# Altium schematic symbol library Quadcopter_Library.SchLib: 118 symbols (part 2 of 4)
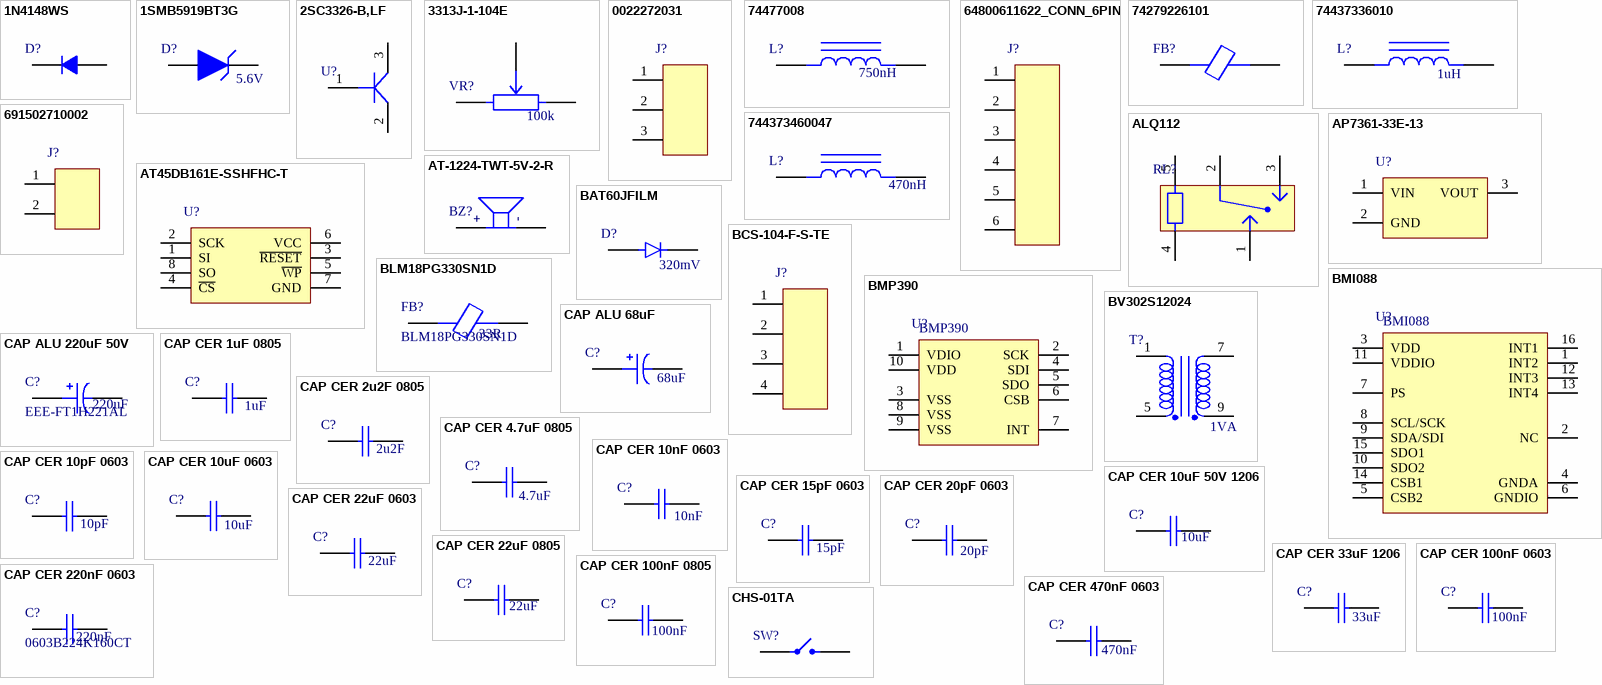
[diagram p3: symbols 1N4148WS to CHS-01TA]

## CAP CER 22uF 0603
designator C?, comment Capacitance: 22uF  (hidden comment: 1276-1274-1-ND)
Ceramic Capacitor, Multilayer, Ceramic, 10V, 20% +Tol, 20% -Tol, X5R, 15% TC, 22uF, Surface Mount, 0603; Manufacturer: Samsung; Manufacturer Part Number: CL10A226MP8NUNE; Multilayer: Yes; Designed By: Kubilay Közleme; Supplier 1: Digikey; RoHS: Yes; Category: Ceramic Capacitors; Stock 1: 977664; Pricing 1: 1=0.18, 10=0.121, 50=0.0726, 100=0.0571, 500=0.04214, 1000=0.03489 (USD); Mount: Surface Mount; Number of Pins: 2; Dielectric Material: Ceramic; Package Shape: Rectangular; Size Code: 0603; Terminal Finish: Nickel; Min Operating Temperature: -55°C; Max Operating Temperature: 85°C; JESD-609 Code: e3; Capacitor Type: Ceramic; Negative Tolerance: 20%; Package Style: SMTMeter; Packaging: Tape and Reel; Positive Tolerance: 20%; Rated DC Voltage (URdc): 10V; Temperature Characteristics Code: X5R; Termination: Wraparound; Length: 1.6mm; Width: 0.8mm; Height: 1.05mm; Reach SVHC Compliant: Yes; RoHS Compliant: Yes; ComponentLink1URL: https://datasheet.ciiva.com:443/pdfs/VipMasterIC/IC/SEMS/SEMS-S-A0008525088/SEMS-S-A0008525102-1.pdf?src-supplier=IHS+Markit; ComponentLink1Description: https://datasheet.ciiva.com:443/pdfs/VipMasterIC/IC/SEMS/SEMS-S-A0008525088/SEMS-S-A0008525102-1.pdf?src-supplier=IHS+Markit; ComponentLink2URL: https://datasheet.ciiva.com/26838/getdatasheetpartid-746477-26838370.pdf?src-supplier=Verical; ComponentLink2Description: https://datasheet.ciiva.com/26838/getdatasheetpartid-746477-26838370.pdf?src-supplier=Verical; ComponentLink3URL: https://datasheet.ciiva.com/25711/cl10a226mp8nune-25711532.pdf?src-supplier=Digikey; ComponentLink3Description: https://datasheet.ciiva.com/25711/cl10a226mp8nune-25711532.pdf?src-supplier=Digikey; Supplier Part Number 1: 1276-1274-1-ND
footprint CAP_0603
pins: 1, 2

## CAP CER 22uF 0805
designator C?, comment Capacitance Value: 22uF  (hidden comment: C2012X5R1V226M125DC)
Commercial Grade, 0805, X5R, 35V, 22; Manufacturer: TDK; Designed By: Kubilay Közleme; Supplier 1: Digikey; Manufacturer Part Number: C2012X5R1V226M125DC; RoHS: No; Category: Ceramic Capacitors; Stock 1: 18749; Pricing 1: 1=0.96, 10=0.592, 50=0.4438, 100=0.3974, 500=0.31846, 1000=0.2938, 2500=0.26759, 5000=0.25169 (USD); Supplier Part Number 1: 445-C2012X5R1V226M125DCCT-ND
footprint CAP_0805
pins: 1, 2

## CAP CER 33uF 1206
designator C?, comment value 33uF  (hidden comment: C3216X5R1E336M160AC)
Multilayer Ceramic Capacitor, 33 uF, 25 V, ± 20%, X5R, 1206 [3216 Metric]; Manufacturer: TDK; Material: 4241ConductorMaterial; Designed By: Kubilay Közleme; Supplier 1: Digikey; Manufacturer Part Number: C3216X5R1E336M160AC; RoHS: Yes; Category: Ceramic Capacitors; Stock 1: 165229; Pricing 1: 2000=0.3605, 4000=0.34763, 10000=0.33475, 14000=0.32831 (USD); ComponentLink1URL: https://datasheet.ciiva.com/24216/c3216x5r1e336m160ac-265051-24216512.pdf?src-supplier=Mouser; ComponentLink1Description: https://datasheet.ciiva.com/24216/c3216x5r1e336m160ac-265051-24216512.pdf?src-supplier=Mouser; ComponentLink2URL: https://datasheet.ciiva.com/6285/tdkmlcccaprange-6285278.pdf?src-supplier=Digikey; ComponentLink2Description: https://datasheet.ciiva.com/6285/tdkmlcccaprange-6285278.pdf?src-supplier=Digikey; Supplier Part Number 1: 445-8046-2-ND
footprint CAP_1206
pins: 1, 2

## CAP CER 100nF 0603
designator C?, comment Capacitance: 100nF  (hidden comment: C0603C104K1RACTU)
Cap Cer 0603 0.1UF 100VDC X7R; Manufacturer: KEMET; Dielectric: 1511DielectricType; Voltage Rating (DC): 100V; Designed By: Kubilay Közleme; Supplier 1: Digikey; Manufacturer Part Number: C0603C104K1RACTU; RoHS: No; Category: Ceramic Capacitors; Stock 1: 10169; Pricing 1: 1=0.28, 10=0.185, 50=0.1296, 100=0.1047, 500=0.07782, 1000=0.06808 (USD); Case/Package: 345Case; Supplier Part Number 1: 399-C0603C104K1RACTUCT-ND
footprint CAP_0603
pins: 1, 2

## CAP CER 100nF 0805
designator C?, comment Capacitance: 100nF  (hidden comment: CL21B104KBCNNNC)
Multilayer Ceramic Capacitor, 0.1 uF, 50 V, ï¿½ 10%, X7R, 0805 [2012 Metric]; Manufacturer: Samsung; Voltage Rating: 50V; Designed By: Kubilay Közleme; Supplier 1: Digikey; Manufacturer Part Number: CL21B104KBCNNNC; RoHS: Yes; Category: Ceramic Capacitors; Stock 1: 1683568; Pricing 1: 1=0.1, 10=0.042, 50=0.024, 100=0.0186, 500=0.01404, 1000=0.01103 (USD); Mount: Surface Mount; Case/Package: 0805; Case Code (Metric): 2012; Case Code (Imperial): 0805; Material: Ceramic; Min Operating Temperature: -55°C; Max Operating Temperature: 125°C; Tolerance: 10%; Dielectric: X7R; Packaging: Tape and Reel; Voltage: 50V; Series: CL; Construction: Flat; Voltage Rating (DC): 50V; Length: 2mm; Width: 0.049inch; Height: 0.85mm; Depth: 1.25mm; Thickness: 0.037inch; Radiation Hardening: No; RoHS Compliant: Yes; Lead Free: 5697LeadFree; ComponentLink1URL: https://datasheet.ciiva.com/25710/cl21b104kbcnnnc-25710182.pdf?src-supplier=Digikey; ComponentLink1Description: https://datasheet.ciiva.com/25710/cl21b104kbcnnnc-25710182.pdf?src-supplier=Digikey; ComponentLink2URL: https://datasheet.ciiva.com/29199/454152-da-01-en-vs-kondensator-0805-29199814.pdf?src-supplier=Conrad; ComponentLink2Description: https://datasheet.ciiva.com/29199/454152-da-01-en-vs-kondensator-0805-29199814.pdf?src-supplier=Conrad; Supplier Part Number 1: 1276-1003-6-ND
footprint CAP_0805
pins: 1, 2

## CAP CER 220nF 0603
designator C?, comment 0603B224K160CT  Capacitance: 220nF
Ceramic Capacitor, Multilayer, Ceramic, 16V, 10% +Tol, 10% -Tol, X7R, 15% TC, 0.22uF, Surface Mount, 0603; Manufacturer: Walsin Technologies; Multilayer: Yes; Designed By: Kubilay Közleme; Supplier 1: Digikey; Manufacturer Part Number: 0603B224K160CT; RoHS: Yes; Category: Ceramic Capacitors; Stock 1: 99293; Pricing 1: 1=0.1, 10=0.034, 50=0.0192, 100=0.0149, 500=0.01124, 1000=0.00883 (USD); Mount: Surface Mount; Number of Pins: 2; Dielectric Material: Ceramic; Package Shape: Rectangular; Size Code: 0603; Terminal Finish: Nickel; Min Operating Temperature: -55°C; Max Operating Temperature: 125°C; JESD-609 Code: e3; Capacitor Type: Ceramic; Negative Tolerance: 10%; Package Style: SMTMeter; Packaging: Tape and Reel; Positive Tolerance: 10%; Rated DC Voltage (URdc): 16V; Temperature Characteristics Code: X7R; Termination: Wraparound; Length: 1.6mm; Width: 0.8mm; Height: 0.8mm; Reach SVHC Compliant: Yes; RoHS Compliant: Yes; ComponentLink1URL: https://datasheet.ciiva.com:443/pdfs/VipMasterIC/IC/WATC/WATC-S-A0009550342/WATC-S-A0009550342-1.pdf?src-supplier=IHS+Markit; ComponentLink1Description: https://datasheet.ciiva.com:443/pdfs/VipMasterIC/IC/WATC/WATC-S-A0009550342/WATC-S-A0009550342-1.pdf?src-supplier=IHS+Markit; ComponentLink2URL: http://www.farnell.com/datasheets/2340522.pdf?src-supplier=Farnell; ComponentLink2Description: http://www.farnell.com/datasheets/2340522.pdf?src-supplier=Farnell; ComponentLink3URL: http://www.farnell.com/datasheets/2009679.pdf?src-supplier=Farnell; ComponentLink3Description: http://www.farnell.com/datasheets/2009679.pdf?src-supplier=Farnell; ComponentLink4URL: https://www.verical.com/server-webapp/html/getDatasheet?partID=415742&src-supplier=Verical; ComponentLink4Description: https://www.verical.com/server-webapp/html/getDatasheet?partID=415742&src-supplier=Verical; ComponentLink5URL: http://www.passivecomponent.com/wp-content/uploads/2018/10/MLCC.pdf?src-supplier=Digikey; ComponentLink5Description: http://www.passivecomponent.com/wp-content/uploads/2018/10/MLCC.pdf?src-supplier=Digikey; ComponentLink6URL: https://datasheet.octopart.com/0603B224K160CT-Walsin-Technologies-datasheet-128065749.pdf?src-supplier=Future+Electronics; ComponentLink6Description: https://datasheet.octopart.com/0603B224K160CT-Walsin-Technologies-datasheet-128065749.pdf?src-supplier=Future+Electronics; ComponentLink7URL: https://datasheet.octopart.com/0603B224K160CT-Walsin-Technologies-datasheet-85392065.pdf?src-supplier=Element14; ComponentLink7Description: https://datasheet.octopart.com/0603B224K160CT-Walsin-Technologies-datasheet-85392065.pdf?src-supplier=Element14; ComponentLink8URL: https://datasheet.octopart.com/0603B224K160CT-Walsin-Technologies-datasheet-136037192.pdf?src-supplier=TECHDesign; ComponentLink8Description: https://datasheet.octopart.com/0603B224K160CT-Walsin-Technologies-datasheet-136037192.pdf?src-supplier=TECHDesign; ComponentLink9URL: https://datasheet.octopart.com/0603B224K160CT-Walsin-Technologies-datasheet-62066062.pdf?src-supplier=TME; ComponentLink9Description: https://datasheet.octopart.com/0603B224K160CT-Walsin-Technologies-datasheet-62066062.pdf?src-supplier=TME; Supplier Part Number 1: 1292-1419-1-ND
footprint CAP_0603
pins: 1, 2

## CAP CER 470nF 0603
designator C?, comment Capacitance: 470nF  (hidden comment: CGA3E3X7R1H474K080AB)
Ceramic Capacitor, Multilayer, Ceramic, 50V, 10% +Tol, 10% -Tol, X7R, 15% TC, 0.47uF, Surface Mount, 0603; Manufacturer: TDK; Designed By: Kubilay Közleme; Multilayer: Yes; Reference Standard: AEC-Q200; Supplier 1: Digikey; Manufacturer Part Number: CGA3E3X7R1H474K080AB; RoHS: Yes; Category: Ceramic Capacitors; Stock 1: 1178582; Pricing 1: 1=0.26, 10=0.15, 50=0.1066, 100=0.0932, 500=0.0704, 1000=0.0633 (USD); Mount: Surface Mount; Number of Pins: 2; Dielectric Material: Ceramic; Package Shape: Rectangular; Size Code: 0603; Terminal Finish: Nickel; Min Operating Temperature: -55°C; Max Operating Temperature: 125°C; JESD-609 Code: e3; Capacitor Type: Ceramic; Negative Tolerance: 10%; Package Style: SMTMeter; Packaging: Tape and Reel; Positive Tolerance: 10%; Rated DC Voltage (URdc): 50V; Temperature Characteristics Code: X7R; Termination: Wraparound; Length: 1.6mm; Width: 0.8mm; Height: 0.8mm; Reach SVHC Compliant: Yes; RoHS Compliant: Yes; ComponentLink1URL: https://datasheet.ciiva.com:443/pdfs/VipMasterIC/IC/TDKC/TDKC-S-A0008953915/TDKC-S-A0008953915-1.pdf?src-supplier=IHS+Markit; ComponentLink1Description: https://datasheet.ciiva.com:443/pdfs/VipMasterIC/IC/TDKC/TDKC-S-A0008953915/TDKC-S-A0008953915-1.pdf?src-supplier=IHS+Markit; ComponentLink2URL: http://www.mouser.com/ds/2/400/lcc_automotive_general_en-843974.pdf?src-supplier=Mouser; ComponentLink2Description: http://www.mouser.com/ds/2/400/lcc_automotive_general_en-843974.pdf?src-supplier=Mouser; ComponentLink3URL: https://4donline.ihs.com/images/VipMasterIC/IC/TDKC/TDKC-S-A0003616427/TDKC-S-A0003616427-1.pdf?hkey=52A5661711E402568146F3353EA87419&src-supplier=Farnell; ComponentLink3Description: https://4donline.ihs.com/images/VipMasterIC/IC/TDKC/TDKC-S-A0003616427/TDKC-S-A0003616427-1.pdf?hkey=52A5661711E402568146F3353EA87419&src-supplier=Farnell; ComponentLink4URL: https://product.tdk.com/info/en/documents/chara_sheet/CGA3E3X7R1H474K080AB.pdf?src-supplier=Digikey; ComponentLink4Description: https://product.tdk.com/info/en/documents/chara_sheet/CGA3E3X7R1H474K080AB.pdf?src-supplier=Digikey; ComponentLink5URL: https://datasheet.octopart.com/CGA3E3X7R1H474K080AB-TDK-datasheet-136412745.pdf?src-supplier=Newark; ComponentLink5Description: https://datasheet.octopart.com/CGA3E3X7R1H474K080AB-TDK-datasheet-136412745.pdf?src-supplier=Newark; ComponentLink6URL: https://4donline.ihs.com/images/VipMasterIC/IC/TDKC/TDKC-S-A0003616427/TDKC-S-A0003616427-1.pdf?hkey=52A5661711E402568146F3353EA87419&src-supplier=Newark; ComponentLink6Description: https://4donline.ihs.com/images/VipMasterIC/IC/TDKC/TDKC-S-A0003616427/TDKC-S-A0003616427-1.pdf?hkey=52A5661711E402568146F3353EA87419&src-supplier=Newark; ComponentLink7URL: https://datasheet.octopart.com/CGA3E3X7R1H474K080AB-TDK-datasheet-151546526.pdf?src-supplier=Future+Electronics; ComponentLink7Description: https://datasheet.octopart.com/CGA3E3X7R1H474K080AB-TDK-datasheet-151546526.pdf?src-supplier=Future+Electronics; ComponentLink8URL: https://product.tdk.com/info/en/catalog/datasheets/mlcc_automotive_general_en.pdf?ref_disty=digikey&src-supplier=Digikey; ComponentLink8Description: https://product.tdk.com/info/en/catalog/datasheets/mlcc_automotive_general_en.pdf?ref_disty=digikey&src-supplier=Digikey; ComponentLink9URL: http://product.tdk.com/capacitor/mlcc/class/print_detail_pdf.php?lang=en&part_no=CGA3E3X7R1H474K080AB&src-supplier=Avnet; ComponentLink9Description: http://product.tdk.com/capacitor/mlcc/class/print_detail_pdf.php?lang=en&part_no=CGA3E3X7R1H474K080AB&src-supplier=Avnet; ComponentLink10URL: https://product.tdk.com/info/en/catalog/datasheets/mlcc_automotive_general_en.pdf?src-supplier=Digikey; ComponentLink10Description: https://product.tdk.com/info/en/catalog/datasheets/mlcc_automotive_general_en.pdf?src-supplier=Digikey; ComponentLink11URL: https://datasheet.octopart.com/CGA3E3X7R1H474K080AB-TDK-datasheet-140571036.pdf?src-supplier=Arrow.cn; ComponentLink11Description: https://datasheet.octopart.com/CGA3E3X7R1H474K080AB-TDK-datasheet-140571036.pdf?src-supplier=Arrow.cn; ComponentLink12URL: https://datasheet.octopart.com/CGA3E3X7R1H474K080AB-TDK-datasheet-165583812.pdf?src-supplier=TME; ComponentLink12Description: https://datasheet.octopart.com/CGA3E3X7R1H474K080AB-TDK-datasheet-165583812.pdf?src-supplier=TME; Supplier Part Number 1: 445-175200-1-ND
footprint CAP_0603
pins: 1, 2

## CHS-01TA
designator SW?  (value not drawn)
Slide Dip Switch, 1 Switches, SPST, Latched, 0.1A, 6VDC, Solder Terminal, Surface Mount-straight; Manufacturer: Nidec Copal; Additional Feature: Low Profile; Contact Current(DC)-Max: 100mA; Contact DC Max Rating R Load: .1A@6VDC; Contact Voltage(DC)-Max: 6V; Number of Switch Sections: 1; Body Breadth: 2.5inch; Body Height: 2.5mm; Body Length or Diameter: 5.4mm; Sealing: WATERPROOF; Designed By: Kubilay Közleme; Supplier 1: Digikey; Manufacturer Part Number: CHS-01TA; RoHS: Yes; Category: DIP Switches; Stock 1: 31000; Pricing 1: 1000=0.71104, 3000=0.64438, 5000=0.59994, 10000=0.5555 (USD); Mount: Surface Mount; Terminal Finish: Gold; Min Operating Temperature: -40°C; Max Operating Temperature: 85°C; JESD-609 Code: e4; Packaging: Tape and Reel; Switch Action: LATCHED; Switch Function: SPST; Switch Type: Slide Dip; Termination: Solder; Reach SVHC Compliant: Yes; RoHS Compliant: Yes; ComponentLink1URL: https://datasheet.ciiva.com:443/pdfs/VipMasterIC/IC/NIDC/NIDC-S-A0003711409/NIDC-S-A0003711409-1.pdf?src-supplier=IHS+Markit; ComponentLink1Description: https://datasheet.ciiva.com:443/pdfs/VipMasterIC/IC/NIDC/NIDC-S-A0003711409/NIDC-S-A0003711409-1.pdf?src-supplier=IHS+Markit; ComponentLink2URL: https://datasheet.ciiva.com/2863/chs-2863449.pdf?src-supplier=Digikey; ComponentLink2Description: https://datasheet.ciiva.com/2863/chs-2863449.pdf?src-supplier=Digikey; ComponentLink3URL: https://datasheet.ciiva.com/2863/chs-2863448.pdf?src-supplier=Digikey; ComponentLink3Description: https://datasheet.ciiva.com/2863/chs-2863448.pdf?src-supplier=Digikey; ComponentLink4URL: https://datasheet.ciiva.com/2863/chs-2863450.pdf?src-supplier=Digikey; ComponentLink4Description: https://datasheet.ciiva.com/2863/chs-2863450.pdf?src-supplier=Digikey; Supplier Part Number 1: 563-1003-2-ND
footprint CHS-01TA
pins: 1, 2

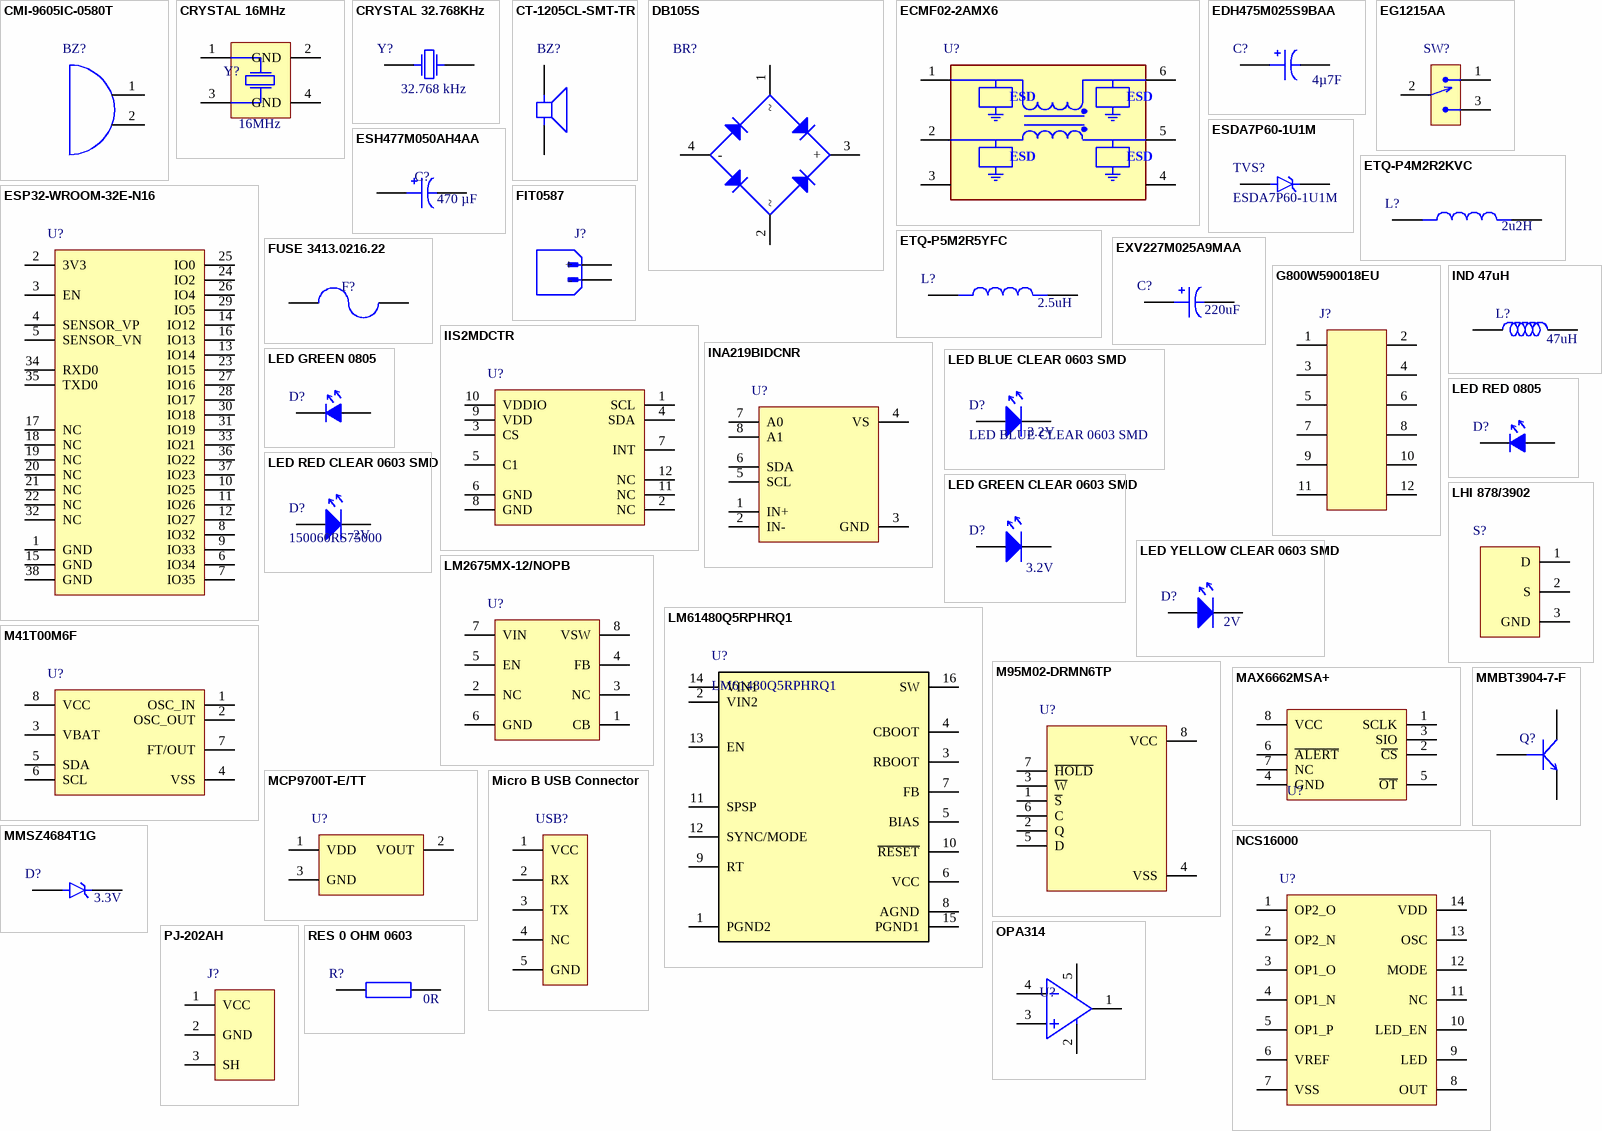
[diagram p1: symbols CMI-9605IC-0580T to RES 0 OHM 0603]

## CMI-9605IC-0580T
designator BZ?  (value not drawn)
Audio Buzzer Magnetic 3VDC 7VDC 30mA 5VDC 85dB 2600Hz to 2800Hz Through Hole Pin Box; Manufacturer: CUI Devices; Shape: 4456Shape; Designed By: Kubilay Közleme; Supplier 1: Digikey; Manufacturer Part Number: CMI-9605IC-0580T; RoHS: No; Category: Audio Products; Stock 1: 4703; Pricing 1: 1=1, 10=0.837, 25=0.7744, 50=0.7312 (USD); Length: 9.6mm; Width: 9.6mm; Height: 5mm; Supplier Part Number 1: 2223-CMI-9605IC-0580T-ND; Case/Package: CMI-9605IC
footprint CMI-9605IC
pins: 1 D, 2 D

## CRYSTAL 16MHz
designator Y?, comment value 16MHz  (hidden comment: ECS-160-20-30B-TR)
Crystal 16MHz ±30ppm (Tol) ±50ppm (Stability) 20pF FUND 50Ohm 4-Pin Mini-SMD T/R; Manufacturer: ECS International; Designed By: Kubilay Közleme; Supplier 1: Digikey; Manufacturer Part Number: ECS-160-20-30B-TR; RoHS: Yes; Category: Crystals; Stock 1: 18651; Pricing 1: 1=0.71, 10=0.609, 50=0.5484, 100=0.5245, 500=0.47318 (USD); ComponentLink1URL: https://datasheet.ciiva.com/853/ecx-53b-853408.pdf?src-supplier=Digikey; ComponentLink1Description: https://datasheet.ciiva.com/853/ecx-53b-853408.pdf?src-supplier=Digikey; ComponentLink2URL: https://datasheet.ciiva.com/853/ecx-53b-853407.pdf?src-supplier=Digikey; ComponentLink2Description: https://datasheet.ciiva.com/853/ecx-53b-853407.pdf?src-supplier=Digikey; ComponentLink3URL: https://datasheet.ciiva.com/853/ecx-53b-853406.pdf?src-supplier=Digikey; ComponentLink3Description: https://datasheet.ciiva.com/853/ecx-53b-853406.pdf?src-supplier=Digikey; Supplier Part Number 1: XC1120CT-ND
footprint ECS
pins: 1, 2 GND, 3, 4 GND

## CRYSTAL 32.768KHz
designator Y?, comment Operating Frequency: 32.768 kHz  (hidden comment: ABS05-32.768KHZ-T)
Crystal 0.032768MHz ±20ppm (Tol) 12.5pF Flexural 90000Ohm 2-Pin CSMD T/R; Manufacturer: Abracon; ESR (Equivalent Series Resistance): 90kR; Designed By: Kubilay Közleme; Supplier 1: Digikey; Manufacturer Part Number: ABS05-32.768KHZ-T; RoHS: Yes; Category: Crystals; Stock 1: 121732; Pricing 1: 1=0.71, 10=0.607, 50=0.5472, 100=0.5233, 500=0.47204, 1000=0.45162 (USD); Mount: Surface Mount; Case/Package: CSMD; Number of Pins: 2; Min Operating Temperature: -40°C; Max Operating Temperature: 85°C; Packaging: Tape and Reel; Frequency Tolerance: 20ppm; Load Capacitance: 12.5pF; Package Quantity: 3000; Frequency: 32.768kHz; Tolerance: 20ppm; Termination: SMD/SMT; Series Resistance: 90kR; Series: ABS05; Length: 1.6mm; Width: 1mm; Height: 0.5mm; Depth: 1mm; Radiation Hardening: No; Reach SVHC Compliant: No; Lead Free: Lead Free; RoHS Compliant: Yes; ComponentLink1URL: https://datasheet.ciiva.com/23810/abs05-23810480.pdf?src-supplier=Newark; ComponentLink1Description: https://datasheet.ciiva.com/23810/abs05-23810480.pdf?src-supplier=Newark; ComponentLink2URL: https://datasheet.ciiva.com/6728/abs05-6728949.pdf?src-supplier=Digikey; ComponentLink2Description: https://datasheet.ciiva.com/6728/abs05-6728949.pdf?src-supplier=Digikey; ComponentLink3URL: https://datasheet.ciiva.com/6728/abs05-6728950.pdf?src-supplier=Digikey; ComponentLink3Description: https://datasheet.ciiva.com/6728/abs05-6728950.pdf?src-supplier=Digikey; ComponentLink4URL: https://datasheet.ciiva.com/16411/abs05-16411149.pdf?src-supplier=Future+Electronics; ComponentLink4Description: https://datasheet.ciiva.com/16411/abs05-16411149.pdf?src-supplier=Future+Electronics; Supplier Part Number 1: 535-11899-1-ND
footprint ABS05
pins: 1, 2

## CT-1205CL-SMT-TR
designator BZ?  (value not drawn)
12.8 mm, 5 V, 88 dB, 2.4 kHz, Surface Mount (SMT), Driving Circuit, Magnetic Audio Indicator Buzzer; Manufacturer: CUI Devices; Shape: 4453Shape; Frequency: 2.4kHz; Operating Supply Current: 30mA; Voltage Rating: 5V; Sensing Method: 6241SensingMethod; Input Type: DC; Max Supply Voltage: 7V; Min Supply Voltage: 4V; Designed By: Kubilay Közleme; Supplier 1: Digikey; Manufacturer Part Number: CT-1205CL-SMT-TR; RoHS: No; Category: Buzzers; Stock 1: 39806; Pricing 1: 1=2.24, 10=1.826, 25=1.6836, 50=1.5836, 100=1.4898 (USD); Mount: Surface Mount; Case/Package: 4250Case; Min Operating Temperature: -30°C; Max Operating Temperature: 70°C; Termination: Solder; Packaging: 10Packaging; Series: CT; Current: 30mA; Operating Supply Voltage: 5V; Length: 12.8mm; Width: 12.8mm; Height: 7.6mm; Lead Free: 5697LeadFree; ComponentLink1URL: https://www.cuidevices.com/product/resource/digikeypdf/ct-1205cl-smt-tr.pdf?src-supplier=Digikey; ComponentLink1Description: https://www.cuidevices.com/product/resource/digikeypdf/ct-1205cl-smt-tr.pdf?src-supplier=Digikey; ComponentLink2URL: https://datasheet.octopart.com/CT-1205CL-SMT-TR-CUI-datasheet-16178015.pdf?src-supplier=Future+Electronics; ComponentLink2Description: https://datasheet.octopart.com/CT-1205CL-SMT-TR-CUI-datasheet-16178015.pdf?src-supplier=Future+Electronics; ComponentLink3URL: https://datasheet.octopart.com/CT-1205CL-SMT-TR-CUI-Devices-datasheet-141000055.pdf?src-supplier=Master+Electronics; ComponentLink3Description: https://datasheet.octopart.com/CT-1205CL-SMT-TR-CUI-Devices-datasheet-141000055.pdf?src-supplier=Master+Electronics; Supplier Part Number 1: 102-1267-6-ND
footprint CT-1205CL-SMT-TR
pins: 1 +, 2 -

## DB105S
designator BR?  (value not drawn)
Bridge Rect 1PHASE 600V 1A Db-s; Manufacturer: Sangdest Microelectronics; Designed By: Kubilay Közleme; Supplier 1: Digikey; Manufacturer Part Number: DB105S; RoHS: No; Category: Uncategorized; Stock 1: 8987; Pricing 1: 1=0.41, 10=0.29, 100=0.1464, 500=0.12978 (USD); Supplier Part Number 1: 1655-DB105SCT-ND
footprint DB105S
pins: 1 ~, 2 ~, 3 +, 4 -

## ECMF02-2AMX6
designator U?  (value not drawn)
Data Line Filter, 2 Function(s), 6 Pin(s), Plastic; Manufacturer: STMicroelectronics; DC Resistance-Max: 2.5R; Number of Functions: 2; Approvals: UL,IECV; Designed By: Kubilay Közleme; Supplier 1: Digikey; Manufacturer Part Number: ECMF02-2AMX6; RoHS: Yes; Category: Common Mode Chokes; Stock 1: 139873; Pricing 1: 1=0.52, 10=0.448, 25=0.4104, 50=0.3732, 100=0.3321, 250=0.31348, 500=0.2687, 1000=0.23884 (USD); Mount: Surface Mount; Number of Pins: 6; Package Material: Plastic; Min Operating Temperature: -40°C; Max Operating Temperature: 85°C; Filter Type: DATA LINE FILTER; Packaging: Tape and Reel; Length: 1.75mm; Width: 1.55mm; Height: 0.55mm; Reach SVHC Compliant: Yes; RoHS Compliant: Yes; ComponentLink1URL: https://datasheet.ciiva.com:443/pdfs/VipMasterIC/IC/SGST/SGST-S-A0002909654/SGST-S-A0002909654-1.pdf?src-supplier=IHS+Markit; ComponentLink1Description: https://datasheet.ciiva.com:443/pdfs/VipMasterIC/IC/SGST/SGST-S-A0002909654/SGST-S-A0002909654-1.pdf?src-supplier=IHS+Markit; ComponentLink2URL: https://datasheet.ciiva.com/4941/cd00282307-118081-4941944.pdf?src-supplier=Mouser; ComponentLink2Description: https://datasheet.ciiva.com/4941/cd00282307-118081-4941944.pdf?src-supplier=Mouser; ComponentLink3URL: https://datasheet.ciiva.com/16200/cd00282307-16200867.pdf?src-supplier=Future+Electronics; ComponentLink3Description: https://datasheet.ciiva.com/16200/cd00282307-16200867.pdf?src-supplier=Future+Electronics; ComponentLink4URL: https://datasheet.ciiva.com/15120/getdatasheetpartid-259862-15120030.pdf?src-supplier=Verical; ComponentLink4Description: https://datasheet.ciiva.com/15120/getdatasheetpartid-259862-15120030.pdf?src-supplier=Verical; ComponentLink5URL: https://datasheet.ciiva.com/6214/cd00282307-6214629.pdf?src-supplier=Digikey; ComponentLink5Description: https://datasheet.ciiva.com/6214/cd00282307-6214629.pdf?src-supplier=Digikey; ComponentLink6URL: https://datasheet.ciiva.com/6214/cd00282307-6214638.pdf?src-supplier=Digikey; ComponentLink6Description: https://datasheet.ciiva.com/6214/cd00282307-6214638.pdf?src-supplier=Digikey; ComponentLink7URL: https://datasheet.ciiva.com/6214/cd00282307-6214634.pdf?src-supplier=Digikey; ComponentLink7Description: https://datasheet.ciiva.com/6214/cd00282307-6214634.pdf?src-supplier=Digikey; Supplier Part Number 1: 497-10773-1-ND
footprint ECMF02-2AMX6
pins: 1 D+_IN, 2 D-_IN, 3 GND, 4 NC, 5 D-_OUT, 6 D+_OUT
text: ESD

## EDH475M025S9BAA
designator C?  Capacitance Value: 4µ7F  (hidden comment: EDH475M025S9BAA)
EDH ALUMINUM ELECTROLYTIC CAPACITOR Radial Can - SMD aluminum electrolytic capacitor 0.157Dia 4.00mm ±20% 4.7muF 25V; Manufacturer: KEMET; Designed By: Kubilay Közleme; Supplier 1: Digikey; Manufacturer Part Number: EDH475M025S9BAA; Category: Aluminum Electrolytic Capacitors; Stock 1: 40000; Pricing 1: 1=0.31, 10=0.183, 50=0.131, 100=0.1149, 500=0.08754, 1000=0.07901 (USD); ComponentLink1URL: https://api.kemet.com/component-edge/download/datasheet/EDH475M025S9BAA.pdf?src-supplier=Digikey; ComponentLink1Description: https://api.kemet.com/component-edge/download/datasheet/EDH475M025S9BAA.pdf?src-supplier=Digikey; Supplier Part Number 1: 399-EDH475M025S9BAACT-ND
footprint EDH475M025S9BAA
pins: 1, 2

## EG1215AA
designator SW?  (value not drawn)
Slide Switch, SPDT, 0.025A, 24V, SMD; Manufacturer: E-Switch; Mechanical Life: 10000Cycles; Switch Function: On-On; Actuator Type: Standard; Switch Travel: 1.5mm; Operating Force: 150gf; Actuator Length: 1.4mm; Designed By: Kubilay Közleme; Supplier 1: Digikey; Manufacturer Part Number: EG1215AA; RoHS: Yes; Stock 1: 19530; Pricing 1: 1=0.99, 10=0.951, 25=0.8884, 100=0.7715, 250=0.702, 500=0.6508, 1000=0.60327 (USD); Mount: Surface Mount; Min Operating Temperature: -20°C; Max Operating Temperature: 70°C; Throw Configuration: SPDT; Packaging: Cut Tape; Voltage Rating (DC): 24V; Termination: Gull Wing; Electrical Life: 10000Cycles; Series: EG; RoHS Compliant: Yes; ComponentLink1URL: https://media.digikey.com/pdf/Data%20Sheets/E-Switch%20PDFs/EG1215_Series_Ds.pdf?src-supplier=Digikey; ComponentLink1Description: https://media.digikey.com/pdf/Data%20Sheets/E-Switch%20PDFs/EG1215_Series_Ds.pdf?src-supplier=Digikey; ComponentLink2URL: http://www.farnell.com/datasheets/2645007.pdf?src-supplier=Farnell; ComponentLink2Description: http://www.farnell.com/datasheets/2645007.pdf?src-supplier=Farnell; Supplier Part Number 1: EG5720CT-ND; Case/Package: EG1215
footprint EG1215AA
pins: 1, 2, 3

## ESDA7P60-1U1M
designator TVS?
Trans Voltage Suppressor Diode, 700W, 5V V(RWM), Unidirectional, 1 Element, Silicon; Manufacturer: STMicroelectronics; Designed By: Kubilay Közleme; Supplier 1: Digikey; Manufacturer Part Number: ESDA7P60-1U1M; RoHS: Yes; Category: TVS Diodes; Stock 1: 72605; Pricing 1: 1=0.37, 10=0.245, 100=0.1654, 500=0.1281, 1000=0.11568, 2000=0.10507 (USD); Diode Type: TRANS VOLTAGE SUPPRESSOR; Reach SVHC Compliant: Yes; RoHS Compliant: Yes; ComponentLink1URL: https://datasheet.ciiva.com:443/pdfs/VipMasterIC/IC/SGST/SGST-S-A0001313824/SGST-S-A0001313824-1.pdf?src-supplier=IHS+Markit; ComponentLink1Description: https://datasheet.ciiva.com:443/pdfs/VipMasterIC/IC/SGST/SGST-S-A0001313824/SGST-S-A0001313824-1.pdf?src-supplier=IHS+Markit; ComponentLink2URL: http://www.farnell.com/datasheets/2041290.pdf?src-supplier=Farnell; ComponentLink2Description: http://www.farnell.com/datasheets/2041290.pdf?src-supplier=Farnell; ComponentLink3URL: http://www.st.com/content/ccc/resource/technical/document/datasheet/44/e9/26/44/42/ee/4f/e5/DM00139972.pdf/files/DM00139972.pdf/jcr:content/translations/en.DM00139972.pdf?src-supplier=Digikey; ComponentLink3Description: http://www.st.com/content/ccc/resource/technical/document/datasheet/44/e9/26/44/42/ee/4f/e5/DM00139972.pdf/files/DM00139972.pdf/jcr:content/translations/en.DM00139972.pdf?src-supplier=Digikey; ComponentLink4URL: http://www.farnell.com/datasheets/2041290.pdf?src-supplier=Element14; ComponentLink4Description: http://www.farnell.com/datasheets/2041290.pdf?src-supplier=Element14; Supplier Part Number 1: 497-16253-1-ND
footprint ESDA7P60-1U1M
pins: A, C

## ESH477M050AH4AA
designator C?  value 470 µF  (hidden comment: ESH477M050AH4AA)
Electrolytic capacitor, 470 µF, 50 V (DC), ±20 %, radial, pitch 5 mm, Ø 13 mm; Manufacturer: KEMET; Voltage Rating (DC): 50V; Designed By: Kubilay Közleme; Supplier 1: Digikey; Manufacturer Part Number: ESH477M050AH4AA; RoHS: Yes; Category: LDO; Stock 1: 5773; Diameter: 10mm; Height: 20mm; ComponentLink1URL: https://api.kemet.com/component-edge/download/datasheet/ESH477M050AH4AA.pdf?src-supplier=Digikey; ComponentLink1Description: https://api.kemet.com/component-edge/download/datasheet/ESH477M050AH4AA.pdf?src-supplier=Digikey; ComponentLink2URL: https://datasheet.octopart.com/ESH477M050AH4AA-KEMET-datasheet-130075338.pdf?src-supplier=Newark; ComponentLink2Description: https://datasheet.octopart.com/ESH477M050AH4AA-KEMET-datasheet-130075338.pdf?src-supplier=Newark; Supplier Part Number 1: 399-15683-ND; Pricing 1: 1=0.64, 10=0.432, 200=0.28415, 1000=0.1887, 5000=0.1665, 10000=0.1554 (USD)
footprint CAP_RADIAL_D10_P5
pins: 1, 2

## ESP32-WROOM-32E-N16
designator U?  (value not drawn)
Bluetooth, WiFi 802.11b/g/n, Bluetooth v4.2 +EDR, Class 1, 2 and 3 Transceiver; Manufacturer: Espressif Systems; Designed By: Kubilay Közleme; Supplier 1: Digikey; Manufacturer Part Number: ESP32-WROOM-32E-N16; RoHS: No; Category: LDO; Stock 1: 8636; Pricing 1: 1=6.79, 10=6.06, 25=5.454, 100=4.9692, 250=4.4844 (USD); Supplier Part Number 1: 5407-ESP32-WROOM-32E-N16CT-ND
footprint ESP32-32E
pins: 1 GND, 2 3V3, 3 EN, 4 SENSOR_VP, 5 SENSOR_VN, 6 IO34, 7 IO35, 8 IO32, 9 IO33, 10 IO25, 11 IO26, 12 IO27, 13 IO14, 14 IO12, 15 GND, 16 IO13, 17 NC, 18 NC, 19 NC, 20 NC, 21 NC, 22 NC, 23 IO15, 24 IO2, 25 IO0, 26 IO4, 27 IO16, 28 IO17, 29 IO5, 30 IO18, 31 IO19, 32 NC, 33 IO21, 34 RXD0, 35 TXD0, 36 IO22, 37 IO23, 38 GND

## ETQ-P4M2R2KVC
designator L?  Inductor Value: 2u2H  (hidden comment: ETQ-P4M2R2KVC)
Power Choke Shielded Wirewound 2.2uH 20% 100KHz Metal 14.8A 0.00748Ohm DCR Automotive T/R; Manufacturer: Panasonic; Designed By: Kubilay Közleme; Supplier 1: Digikey; Manufacturer Part Number: ETQ-P4M2R2KVC; RoHS: Yes; Category: Fixed Inductors; Stock 1: 1000; Pricing 1: 1=1.01, 10=0.853, 25=0.7756, 50=0.729, 100=0.605, 250=0.55844 (USD); ComponentLink1URL: https://datasheet.ciiva.com:443/pdfs/VipMasterIC/IC/PANA/PANA-S-A0009325573/PANA-S-A0009325573-1.pdf?src-supplier=IHS+Markit; ComponentLink1Description: https://datasheet.ciiva.com:443/pdfs/VipMasterIC/IC/PANA/PANA-S-A0009325573/PANA-S-A0009325573-1.pdf?src-supplier=IHS+Markit; ComponentLink2URL: https://media.digikey.com/pdf/Data%20Sheets/Panasonic%20Inductors%20Coils%20Filters%20PDFs/ETQ-P_Series_NPI.pdf?src-supplier=Digikey; ComponentLink2Description: https://media.digikey.com/pdf/Data%20Sheets/Panasonic%20Inductors%20Coils%20Filters%20PDFs/ETQ-P_Series_NPI.pdf?src-supplier=Digikey; ComponentLink3URL: http://www.farnell.com/datasheets/2144948.pdf?src-supplier=Element14; ComponentLink3Description: http://www.farnell.com/datasheets/2144948.pdf?src-supplier=Element14; ComponentLink4URL: https://datasheet.octopart.com/ETQP4M2R2KVC-Panasonic-datasheet-137675050.pdf?src-supplier=TME; ComponentLink4Description: https://datasheet.octopart.com/ETQP4M2R2KVC-Panasonic-datasheet-137675050.pdf?src-supplier=TME; Supplier Part Number 1: PCD2462CT-ND
footprint ETQ-P4M2R2KVC
pins: 1, 2

## ETQ-P5M2R5YFC
designator L?  Inductance-Nom (L): 2.5uH  (hidden comment: ETQ-P5M2R5YFC)
General Purpose Inductor, 2.5uH, 20%, 1 Element, Metal Composite-Core, SMD, 4239; Manufacturer: Panasonic; Core Material: Metal,Composite; Case/Size Code: 4239; DC Resistance (DCR): 5.3mR; Inductor Application: POWER INDUCTOR; Number of Functions: 1; Rated Current-Max: 6A; Shape/Size Description: RECTANGULAR PACKAGE; Shielding: Unshielded; Test Frequency: 100kHz; Package Height: 5.4mm; Package Length: 10.7mm; Package Width: 10mm; Designed By: Kubilay Közleme; Supplier 1: Digikey; Manufacturer Part Number: ETQ-P5M2R5YFC; RoHS: Yes; Category: Fixed Inductors; Stock 1: 2547; Pricing 1: 1=1.44, 10=1.218, 25=1.1072, 50=1.0408, 100=0.8637, 250=0.7972 (USD); Number of Pins: 2; Min Operating Temperature: -40°C; Max Operating Temperature: 150°C; Tolerance: 20%; Construction: Choke Coil; Inductor Type: GENERAL PURPOSE INDUCTOR; Package Style: SMTMeter; Packaging: Tape and Reel; Surface Mount: Yes; Terminal Placement: Dual Ended; Termination: J BEND; Reach SVHC Compliant: Yes; RoHS Compliant: Yes; ComponentLink1URL: https://datasheet.ciiva.com:443/pdfs/VipMasterIC/IC/PANA/PANA-S-A0009325412/PANA-S-A0009325412-1.pdf?src-supplier=IHS+Markit; ComponentLink1Description: https://datasheet.ciiva.com:443/pdfs/VipMasterIC/IC/PANA/PANA-S-A0009325412/PANA-S-A0009325412-1.pdf?src-supplier=IHS+Markit; ComponentLink2URL: https://datasheet.ciiva.com/1048/agl0000ce9-1048285.pdf?src-supplier=Digikey; ComponentLink2Description: https://datasheet.ciiva.com/1048/agl0000ce9-1048285.pdf?src-supplier=Digikey; ComponentLink3URL: https://datasheet.ciiva.com/1048/agl0000ce9-1048286.pdf?src-supplier=Digikey; ComponentLink3Description: https://datasheet.ciiva.com/1048/agl0000ce9-1048286.pdf?src-supplier=Digikey; ComponentLink4URL: https://datasheet.ciiva.com/1048/agl0000ce9-1048287.pdf?src-supplier=Digikey; ComponentLink4Description: https://datasheet.ciiva.com/1048/agl0000ce9-1048287.pdf?src-supplier=Digikey; ComponentLink5URL: https://datasheet.ciiva.com/43455/1499752-43455068.pdf?src-supplier=Farnell; ComponentLink5Description: https://datasheet.ciiva.com/43455/1499752-43455068.pdf?src-supplier=Farnell; ComponentLink6URL: https://datasheet.ciiva.com/3084/agl0000ce9-3084040.pdf?src-supplier=Avnet; ComponentLink6Description: https://datasheet.ciiva.com/3084/agl0000ce9-3084040.pdf?src-supplier=Avnet; Supplier Part Number 1: PCD2317CT-ND
footprint ETQ-P5M2R5YFC
pins: 1, 2

## EXV227M025A9MAA
designator C?  Capacitance: 220uF  (hidden comment: EXV227M025A9MAA)
Aluminum Electrolytic Capacitor, Polarized, Aluminum (wet), 25V, 20% +Tol, 20% -Tol, 220uF, Surface Mount, 3333; Manufacturer: KEMET; Dielectric Material: Aluminium; ESR (Equivalent Series Resistance): 160mR; Leakage Current: 55uA; Ripple Current: 420mA; Tan Delta: 0.14; Designed By: Kubilay Közleme; Supplier 1: Digikey; Manufacturer Part Number: EXV227M025A9MAA; RoHS: Yes; Category: Aluminum Electrolytic Capacitors; Stock 1: 14019; Pricing 1: 1=0.88, 10=0.635, 50=0.5554, 100=0.4526 (USD); Mount: Surface Mount; Number of Pins: 2; Package Shape: Cylindrical; Size Code: 3333; Min Operating Temperature: -55°C; Max Operating Temperature: 105°C; Polarity: Polarized; Capacitor Type: Aluminium; Negative Tolerance: 20%; Package Style: SMTMeter; Packaging: Tape and Reel; Positive Tolerance: 20%; Rated DC Voltage (URdc): 25V; Termination: Flat; Length: 10mm; Width: 8.3mm; Height: 10.2mm; Reach SVHC Compliant: Yes; RoHS Compliant: Yes; ComponentLink1URL: https://datasheet.ciiva.com:443/pdfs/VipMasterIC/IC/KEME/KEME-S-A0009591402/KEME-S-A0009591402-1.pdf?src-supplier=IHS+Markit; ComponentLink1Description: https://datasheet.ciiva.com:443/pdfs/VipMasterIC/IC/KEME/KEME-S-A0009591402/KEME-S-A0009591402-1.pdf?src-supplier=IHS+Markit; ComponentLink2URL: http://www.farnell.com/datasheets/2122937.pdf?src-supplier=Farnell; ComponentLink2Description: http://www.farnell.com/datasheets/2122937.pdf?src-supplier=Farnell; ComponentLink3URL: http://www.mouser.com/ds/2/212/EXV-194694.pdf?src-supplier=Mouser; ComponentLink3Description: http://www.mouser.com/ds/2/212/EXV-194694.pdf?src-supplier=Mouser; ComponentLink4URL: https://www.alliedelec.com/m/d/524585d7daac827dddb621003c407bf0.pdf?src-supplier=Allied+Electronics; ComponentLink4Description: https://www.alliedelec.com/m/d/524585d7daac827dddb621003c407bf0.pdf?src-supplier=Allied+Electronics; ComponentLink5URL: http://uk.rs-online.com/webdocs/13da/0900766b813da760.pdf?src-supplier=Rs; ComponentLink5Description: http://uk.rs-online.com/webdocs/13da/0900766b813da760.pdf?src-supplier=Rs; ComponentLink6URL: https://api.kemet.com/component-edge/download/datasheet/EXV227M025A9MAA.pdf?src-supplier=Digikey; ComponentLink6Description: https://api.kemet.com/component-edge/download/datasheet/EXV227M025A9MAA.pdf?src-supplier=Digikey; ComponentLink7URL: https://search.kemet.com/component-edge/download/datasheet/EXV227M025A9MAA.pdf?src-supplier=Digikey; ComponentLink7Description: https://search.kemet.com/component-edge/download/datasheet/EXV227M025A9MAA.pdf?src-supplier=Digikey; ComponentLink8URL: https://datasheet.octopart.com/EXV227M025A9MAA-Kemet-datasheet-66414942.pdf?src-supplier=Element14; ComponentLink8Description: https://datasheet.octopart.com/EXV227M025A9MAA-Kemet-datasheet-66414942.pdf?src-supplier=Element14; ComponentLink9URL: https://datasheet.octopart.com/EXV227M025A9MAA-KEMET-datasheet-74834069.pdf?src-supplier=Newark; ComponentLink9Description: https://datasheet.octopart.com/EXV227M025A9MAA-KEMET-datasheet-74834069.pdf?src-supplier=Newark; Supplier Part Number 1: 399-6730-6-ND
footprint EXV227M025A9MAA
pins: 1, 2

## FIT0587
designator J?  (value not drawn)
High Quality Gold Plated Male and Female Bullet Connector; Manufacturer: DFRobot; Designed By: Kubilay Közleme; Supplier 1: Digikey; Manufacturer Part Number: FIT0587; RoHS: No; Stock 1: 586; Pricing 1: 1=1.5 (USD); ComponentLink1URL: https://media.digikey.com/pdf/Data%20Sheets/DFRobot%20PDFs/FIT0587_Web.pdf?src-supplier=Digikey; ComponentLink1Description: https://media.digikey.com/pdf/Data%20Sheets/DFRobot%20PDFs/FIT0587_Web.pdf?src-supplier=Digikey; Supplier Part Number 1: 1738-1437-ND
footprint XT-60 Male Connector
pins: N -, P +

## FUSE 3413.0216.22
designator F?, comment 3413.0216.22  (value not drawn)
Fuse Chip Fast Acting 1A 32V SMD Solder Pad 1206 Glass T/R VDE/cULus; Manufacturer: Schurter; Body Material: Glass,Epoxy; Voltage Rating (DC): 63V; DC Cold Resistance: 94.2mR; Fuse Type: Board Mount (Cartridge Style Excluded); Approvals: VDE,cURus; Designed By: Kubilay Közleme; Supplier 1: Digikey; Manufacturer Part Number: 3413.0216.22; RoHS: Yes; Category: Fuses; Stock 1: 16338; Pricing 1: 1=0.67, 50=0.524, 100=0.397, 500=0.345 (USD); Mount: Surface Mount,PCB; Case/Package: 1206; Number of Pins: 2; Weight: 0.000212oz; Case Code (Metric): 3216; Case Code (Imperial): 1206; Contact Plating: Gold; Terminal Material: Tin; Min Operating Temperature: -55°C; Max Operating Temperature: 90°C; Current Rating: 1A; Package Quantity: 1000; Voltage Rating (AC): 32V; Packaging: Tape and Reel; Voltage Rating: 32V; Termination: SMD/SMT; Working Voltage: 32V; Series: USI 1206; Length: 3.2mm; Width: 1.6mm; Height: 0.6mm; Lead Free: Lead Free; RoHS Compliant: Yes; ComponentLink1URL: https://datasheet.ciiva.com/301/typ-usi-1206-301440.pdf?src-supplier=Digikey; ComponentLink1Description: https://datasheet.ciiva.com/301/typ-usi-1206-301440.pdf?src-supplier=Digikey; ComponentLink2URL: https://datasheet.ciiva.com/8264/typ-usi-1206-8264583.pdf?src-supplier=Avnet; ComponentLink2Description: https://datasheet.ciiva.com/8264/typ-usi-1206-8264583.pdf?src-supplier=Avnet; ComponentLink3URL: https://datasheet.ciiva.com/16316/typ-usi-1206-16316588.pdf?src-supplier=Future+Electronics; ComponentLink3Description: https://datasheet.ciiva.com/16316/typ-usi-1206-16316588.pdf?src-supplier=Future+Electronics; ComponentLink4URL: https://datasheet.ciiva.com/301/typ-usi-1206-301439.pdf?src-supplier=Digikey; ComponentLink4Description: https://datasheet.ciiva.com/301/typ-usi-1206-301439.pdf?src-supplier=Digikey; ComponentLink5URL: https://datasheet.ciiva.com/14541/70160006-14541114.pdf?src-supplier=Allied+Electronics; ComponentLink5Description: https://datasheet.ciiva.com/14541/70160006-14541114.pdf?src-supplier=Allied+Electronics; ComponentLink6URL: https://datasheet.ciiva.com/14102/qousi1206-data-e-14102903.pdf?src-supplier=Distrelec; ComponentLink6Description: https://datasheet.ciiva.com/14102/qousi1206-data-e-14102903.pdf?src-supplier=Distrelec; ComponentLink7URL: https://datasheet.ciiva.com/301/typ-usi-1206-301441.pdf?src-supplier=Digikey; ComponentLink7Description: https://datasheet.ciiva.com/301/typ-usi-1206-301441.pdf?src-supplier=Digikey; Supplier Part Number 1: 486-1144-1-ND
footprint 3413.0216.22
pins: 1, 2

## G800W590018EU
designator J?  (value not drawn)
Board to Board Connector Straight Header Dual Row 12 Position 2.54mm Pitch Through Hole Bag; Manufacturer: Amphenol; Designed By: Kubilay Közleme; Supplier 1: Digikey; Manufacturer Part Number: G800W590018EU; RoHS: No; Category: Connectors; Stock 1: 1889; Pricing 1: 1=0.26, 10=0.223, 100=0.1715, 500=0.1451, 1000=0.11872, 5000=0.10552, 10000=0.09563 (USD); Supplier Part Number 1: 664-G800W590018EU-ND
footprint G800W590018EU (Connector Header Through Hole 12 position 0.100" (2.54mm))
pins: 1 (power), 2 (power), 3 (power), 4 (power), 5 (power), 6 (power), 7 (power), 8 (power), 9 (power), 10 (power), 11 (power), 12 (power)

## IIS2MDCTR
designator U?  (value not drawn)
Analog Circuit, 1 Func, PBGA12; Manufacturer: STMicroelectronics; Designed By: Kubilay Közleme; Supplier 1: Digikey; Manufacturer Part Number: IIS2MDCTR; RoHS: Yes; Category: Inertial Measurement Units (IMUs); Stock 1: 20000; Pricing 1: 10000=1.5138 (USD); Terminal Finish: Nickel; JESD-609 Code: e4; Analog IC - Other Type: ANALOG CIRCUIT; Moisture Sensitivity Level: 3; Reach SVHC Compliant: Yes; RoHS Compliant: Yes; ComponentLink1URL: https://datasheet.ciiva.com:443/pdfs/VipMasterIC/IC/SGST/SGST-S-A0005002799/SGST-S-A0005002799-1.pdf?src-supplier=IHS+Markit; ComponentLink1Description: https://datasheet.ciiva.com:443/pdfs/VipMasterIC/IC/SGST/SGST-S-A0005002799/SGST-S-A0005002799-1.pdf?src-supplier=IHS+Markit; ComponentLink2URL: http://www.farnell.com/datasheets/2600071.pdf?src-supplier=Farnell; ComponentLink2Description: http://www.farnell.com/datasheets/2600071.pdf?src-supplier=Farnell; ComponentLink3URL: http://www.st.com/content/ccc/resource/technical/document/datasheet/group3/06/f2/a3/a7/74/fe/4b/16/DM00431721/files/DM00431721.pdf/jcr:content/translations/en.DM00431721.pdf?src-supplier=Digikey; ComponentLink3Description: http://www.st.com/content/ccc/resource/technical/document/datasheet/group3/06/f2/a3/a7/74/fe/4b/16/DM00431721/files/DM00431721.pdf/jcr:content/translations/en.DM00431721.pdf?src-supplier=Digikey; ComponentLink4URL: http://www.farnell.com/datasheets/2600071.pdf?src-supplier=Newark; ComponentLink4Description: http://www.farnell.com/datasheets/2600071.pdf?src-supplier=Newark; Supplier Part Number 1: 497-17728-2-ND
footprint IIS2MDCTR (LGA-12)
pins: 1 SCL, 2 NC, 3 CS, 4 SDA, 5 C1, 6 GND, 7 INT, 8 GND, 9 VDD, 10 VDDIO, 11 NC, 12 NC

## INA219BIDCNR
designator U?  (value not drawn)
Power Supply Support Circuit, Fixed, 2 Channel, 2, PDSO8; Manufacturer: Texas Instruments; Package Body Material: Plastic; Adjustable Threshold: No; Number of Channels: 2; Number of Functions: 1; Power Supplies: 3.3V; Supply Current-Max (Isup): 1mA; Supply Voltage-Max (Vsup): 5.5V; Supply Voltage-Min (Vsup): 3V; Package Equivalence Code: TSSOP8,.1; Qualification Status: Not Qualified; Designed By: Kubilay Közleme; Supplier 1: Digikey; Manufacturer Part Number: INA219BIDCNR; RoHS: Yes; Category: Amplifiers - Op Amps, Buffer, Instrumentation; Stock 1: 14409; Pricing 1: 1=1.98, 10=1.423, 25=1.284, 100=1.1862 (USD); Package Code: LSSOP; Number of Pins: 8; Package Shape: Rectangular; Terminal Finish: Nickel; Min Operating Temperature: -40°C; Max Operating Temperature: 125°C; JESD-609 Code: e4; Analog IC - Other Type: POWER SUPPLY SUPPORT CIRCUIT; Moisture Sensitivity Level: 2; Package Style: SMALL OUTLINE, LOW PROFILE, SHRINK PITCHMeter; Peak Reflow Temperature (Cel): 260°C; Supply Voltage-Nom (Vsup): 3.3V; Surface Mount: Yes; Terminal Form: Gull Wing; Terminal Position: DUAL; JESD-30 Code: R-PDSO-G8; Length: 2.9mm; Width: 1.6mm; Height - Seated (Max): 1.45mm; Terminal Pitch: 0.65mm; Temperature Grade: AUTOMOTIVE; Reach SVHC Compliant: Yes; RoHS Compliant: Yes; ComponentLink1URL: https://www.ti.com:443/lit/ds/symlink/ina219.pdf?src-supplier=IHS+Markit; ComponentLink1Description: https://www.ti.com:443/lit/ds/symlink/ina219.pdf?src-supplier=IHS+Markit; ComponentLink2URL: https://datasheet.ciiva.com/1940/ina219-1940043.pdf?src-supplier=Digikey; ComponentLink2Description: https://datasheet.ciiva.com/1940/ina219-1940043.pdf?src-supplier=Digikey; ComponentLink3URL: https://datasheet.ciiva.com/2965/ina219-2965729.pdf?src-supplier=Avnet; ComponentLink3Description: https://datasheet.ciiva.com/2965/ina219-2965729.pdf?src-supplier=Avnet; Supplier Part Number 1: 296-46420-6-ND
footprint SOT-23
pins: 1 IN+, 2 IN-, 3 GND, 4 VS, 5 SCL, 6 SDA, 7 A0, 8 A1

## IND 47uH
designator L?, comment Inductance: 47uH  (hidden comment: 78438335470)
Power Inductor, Aec-Q200, 47Uh, 0.39A Rohs Compliant: Yes |Wurth Elektronik 78438335470; Manufacturer: Wurth Electronics; Core Material: Ferrite; Current Rating: 390mA; Saturation Current: 1.18A; Shielding: Shielded; DC Resistance (DCR): 2.3R; Self Resonant Frequency: 8MHz; Test Frequency: 100kHz; Tolerance: 30%; Designed By: Kubilay Közleme; Supplier 1: Digikey; Manufacturer Part Number: 78438335470; RoHS: Yes; Category: Fixed Inductors; Stock 1: 654; Pricing 1: 1=2.11, 50=1.97, 250=1.803, 500=1.672 (USD); Mount: Surface Mount; Case/Package: 1212; Case Code (Metric): 3030; Case Code (Imperial): 1212; Min Operating Temperature: -40°C; Max Operating Temperature: 125°C; Packaging: Cut Tape; Series: WE-MAIA; Length: 0.118inch; Width: 0.118inch; Height - Seated (Max): 0.059inch; Ratings: AEC-Q200; RoHS Compliant: Yes; ComponentLink1URL: https://media.digikey.com/pdf/Data%20Sheets/Wurth%20Electronics%20PDFs/Q+_Products_Flyer.pdf?src-supplier=Digikey; ComponentLink1Description: https://media.digikey.com/pdf/Data%20Sheets/Wurth%20Electronics%20PDFs/Q+_Products_Flyer.pdf?src-supplier=Digikey; Supplier Part Number 1: 732-6947-1-ND
footprint IND_1212
pins: 1, 2

## LED BLUE CLEAR 0603 SMD
designator D?  Forward Voltage: 3.2V
Single Color LED, Blue, Water Clear, 1.1mm; Manufacturer: Wurth Electronics; Manufacturer Part Number: 150060BS75000; Shape: Rectangular; Forward Current-Max: 30mA; Luminous Intensity-Nom: 145mcd; Number of Functions: 1; Viewing Angle: 140°; Overall Height: 0.7mm; Designed By: Kubilay Közleme; Supplier 1: Digikey; RoHS: Yes; Category: LEDs; Stock 1: 59212; Pricing 1: 1=0.16, 50=0.155, 100=0.133, 500=0.115 (USD); Mount: Surface Mount; Number of Pins: 2; Color: Blue; Min Operating Temperature: -40°C; Max Operating Temperature: 85°C; Lens Style: WATER CLEAR; Optoelectronic Device Type: SINGLE COLOR LED; Packaging: Tape and Reel; Size: 1.1mm; Terminal Pitch: 1.6mm; Reach SVHC Compliant: Yes; RoHS Compliant: Yes; ComponentLink1URL: https://datasheet.ciiva.com:443/pdfs/VipMasterIC/IC/MIDC/MIDC-S-A0007768854/MIDC-S-A0007768854-1.pdf?src-supplier=IHS+Markit; ComponentLink1Description: https://datasheet.ciiva.com:443/pdfs/VipMasterIC/IC/MIDC/MIDC-S-A0007768854/MIDC-S-A0007768854-1.pdf?src-supplier=IHS+Markit; ComponentLink2URL: https://datasheet.ciiva.com/29563/150060bs75000-29563034.pdf?src-supplier=Digikey; ComponentLink2Description: https://datasheet.ciiva.com/29563/150060bs75000-29563034.pdf?src-supplier=Digikey; ComponentLink3URL: https://datasheet.ciiva.com/29279/759426-da-01-en-chipled-0603-w-kl-blau-150060bs75000-29279193.pdf?src-supplier=Conrad; ComponentLink3Description: https://datasheet.ciiva.com/29279/759426-da-01-en-chipled-0603-w-kl-blau-150060bs75000-29279193.pdf?src-supplier=Conrad; ComponentLink4URL: https://datasheet.ciiva.com/22656/1911343-22656939.pdf?src-supplier=Element14; ComponentLink4Description: https://datasheet.ciiva.com/22656/1911343-22656939.pdf?src-supplier=Element14; ComponentLink5URL: https://datasheet.ciiva.com/48430/150060bs75000-eng-tds-48430039.pdf?src-supplier=Distrelec; ComponentLink5Description: https://datasheet.ciiva.com/48430/150060bs75000-eng-tds-48430039.pdf?src-supplier=Distrelec; ComponentLink6URL: https://datasheet.ciiva.com/29563/150060bs75000-29563035.pdf?src-supplier=Digikey; ComponentLink6Description: https://datasheet.ciiva.com/29563/150060bs75000-29563035.pdf?src-supplier=Digikey; ComponentLink7URL: https://datasheet.ciiva.com/29563/150060bs75000-29563036.pdf?src-supplier=Digikey; ComponentLink7Description: https://datasheet.ciiva.com/29563/150060bs75000-29563036.pdf?src-supplier=Digikey; Supplier Part Number 1: 732-4966-6-ND
footprint LED GREEN CLEAR 0603 SMD
pins: 1 K, 2 A

## LED GREEN 0805
designator D?, comment 150080VS75000  (value not drawn)
WL-SMCW SMT Mono-Color Chip LED Waterclear; Manufacturer: Wurth Electronics; Color: Green; Lens Color: Colorless; Luminous Intensity: 40mcd; Forward Current: 30mA; Forward Voltage: 2V; Viewing Angle: 140°; Wavelength: 570nm; Lens Style: Clear,Flat,Rectangular; Test Current: 20mA; Lens Transparency: Clear; Max Reverse Voltage (DC): 5V; Power Dissipation: 72mW; Lens Size: 1.25mm; Designed By: Kubilay Közleme; Supplier 1: Digikey; Manufacturer Part Number: 150080VS75000; RoHS: Yes; Category: LEDs; Stock 1: 52995; Pricing 1: 1=0.18, 50=0.176, 100=0.151, 500=0.131 (USD); Mount: Surface Mount; Case/Package: 0805; Case Code (Metric): 2012; Case Code (Imperial): 0805; Min Operating Temperature: -40°C; Max Operating Temperature: 85°C; Package Quantity: 1; Packaging: Cut Tape; Dominant Wavelength: 570nm; Series: WL-SMCW; Reverse Voltage: 5V; Length: 2mm; Width: 1.25mm; Height: 0.8mm; RoHS Compliant: Yes; Reach SVHC Compliant: Unknown; ComponentLink1URL: https://datasheet.ciiva.com/22656/150080vs75000-22656966.pdf?src-supplier=Element14; ComponentLink1Description: https://datasheet.ciiva.com/22656/150080vs75000-22656966.pdf?src-supplier=Element14; ComponentLink2URL: https://datasheet.ciiva.com/29279/759437-da-01-en-chipled-0805-w-kl-h-gruen-150080vs7500-29279047.pdf?src-supplier=Conrad; ComponentLink2Description: https://datasheet.ciiva.com/29279/759437-da-01-en-chipled-0805-w-kl-h-gruen-150080vs7500-29279047.pdf?src-supplier=Conrad; ComponentLink3URL: https://datasheet.ciiva.com/29563/150080vs75000-29563018.pdf?src-supplier=Digikey; ComponentLink3Description: https://datasheet.ciiva.com/29563/150080vs75000-29563018.pdf?src-supplier=Digikey; Supplier Part Number 1: 732-4986-1-ND
footprint LED_GREEN_0805
pins: 1, 2